# Altium integrated library TI Data Converters Analog to Digital Converter.IntLib: 2198 symbols (part 41 of 164)
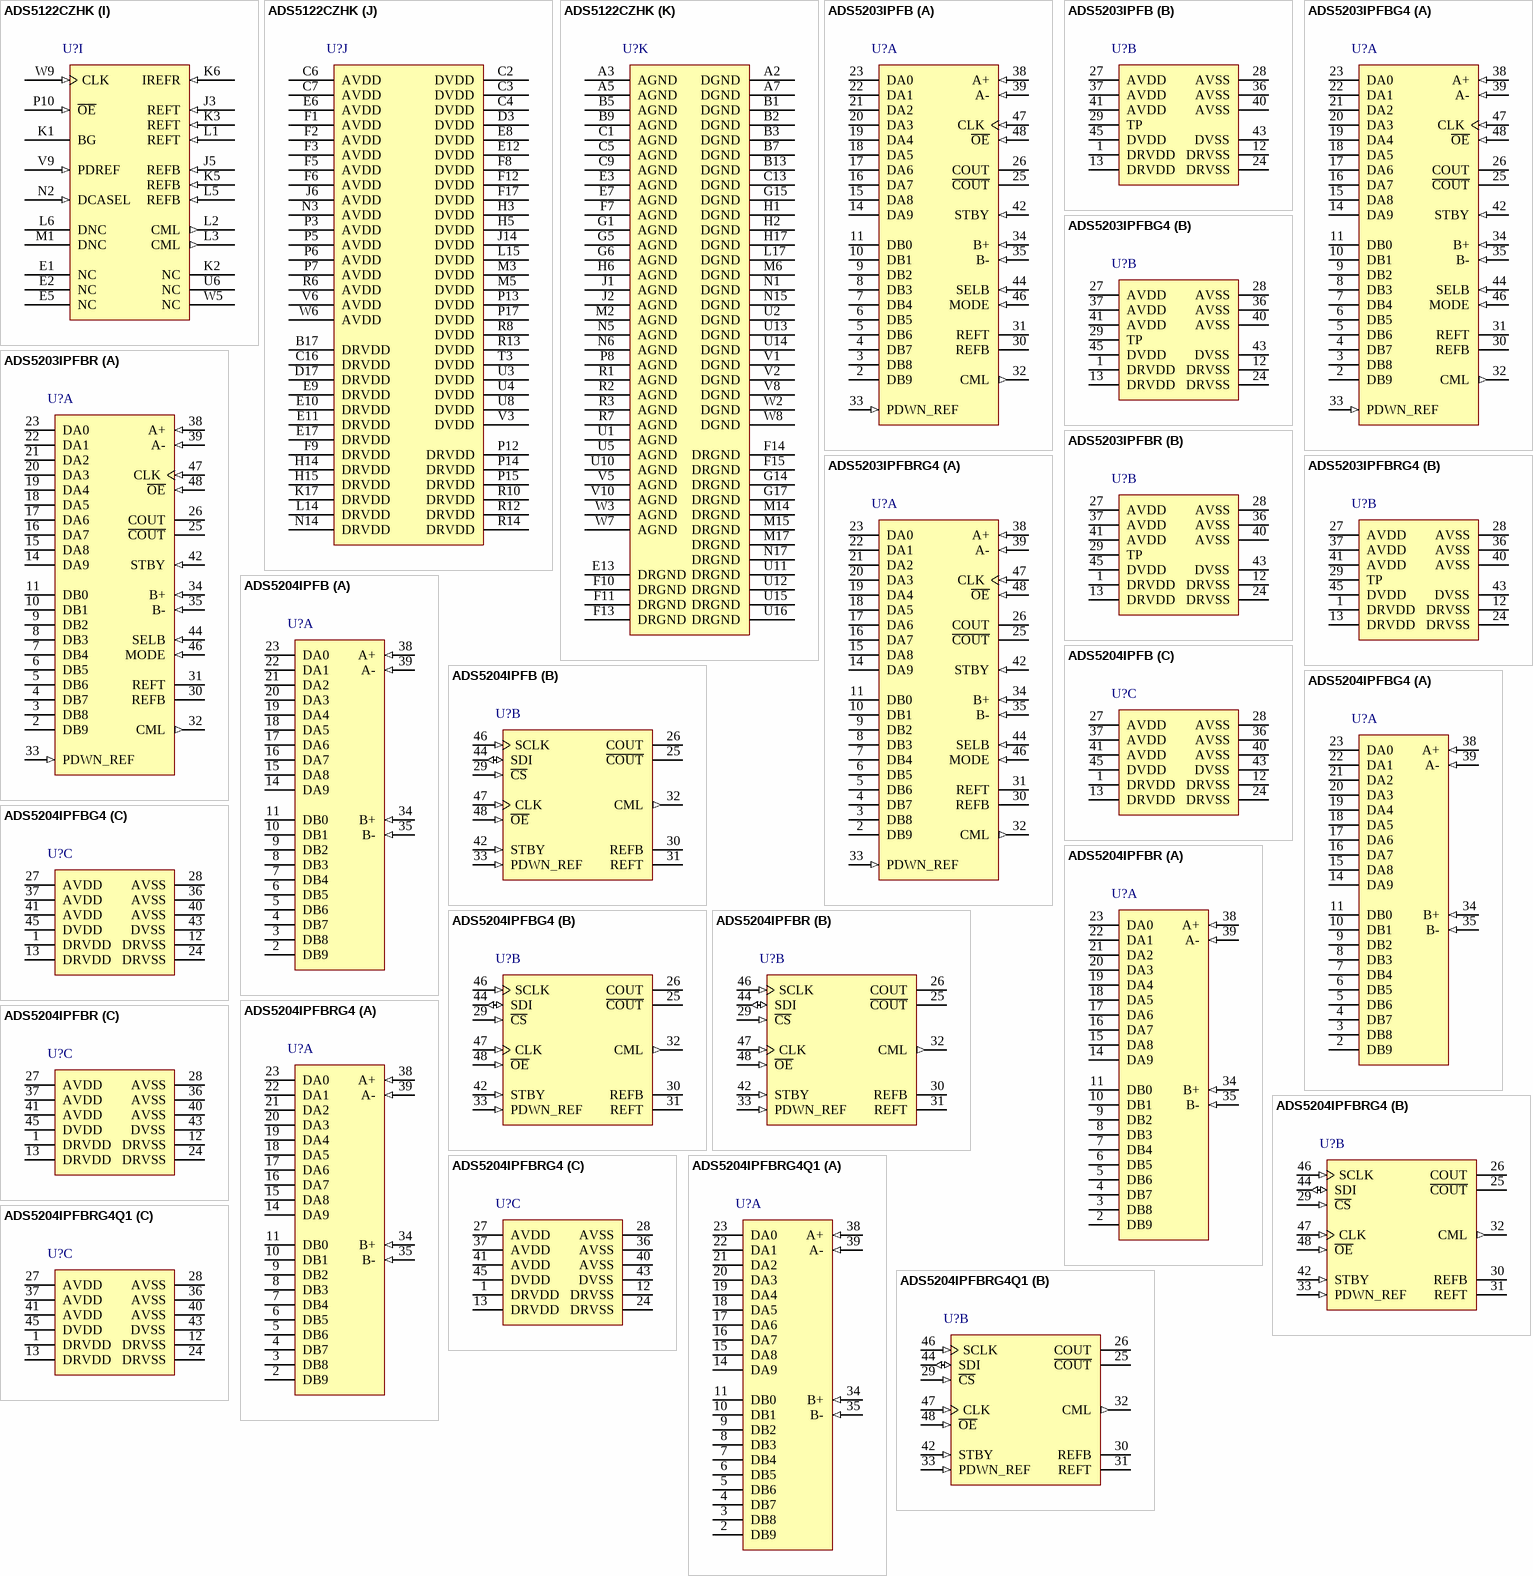
[diagram p166: symbols ADS5122CZHK to ADS5204IPFBRG4Q1]

## ADS5203IPFB
designator U?
10-Bit, 40 MSPS ADC Dual Channel, Low Power, -40 to 85 degC, 48-pin QFP (PFB48), Green (RoHS & no Sb/Br); Manufacturer: Texas Instruments; PartNumber: ADS5203IPFB; # Input Channels: 2; Analog Voltage AV/DD(Max)(V): 3.6; Analog Voltage AV/DD(Min)(V): 3; Architecture: Pipeline; ENOB(Bits): 9.7; INL(Max)(+/-LSB): 1.5; Interface: Parallel CMOS, Serial SPI Interface; Resolution(Bits): 10; Sample Rate (max)(SPS): 40M; SFDR(dB): 73; SINAD(dB): 60; SNR(dB): 60.5; SubFamily: High Speed ADC (>10MSPS); DatasheetVersion: SBAS258A; PackageVersion: 4073176/B, 10/1996; PackageReference: PFB48; PackageDescription: 48-Pin Plastic Flat Pack, Body 7 x 7 mm, Pitch 0.5 mm; Supplier 1: Digi-Key; Supplier Part Number 1: ADS1204IRHBTG4-ND; Digital Supply(Max)(V): 3.6; Digital Supply(Min)(V): 3; Eco-Plan: Green (RoHS & no Sb/Br); Mounting Technology: Surface Mount; Code_JEDEC: MS-026; ComponentLink1Description: Manufacturer URL; ComponentLink1URL: http://www.ti.com/; ComponentLink2Description: Datasheet; ComponentLink2URL: http://www.ti.com/general/docs/lit/getliterature.tsp?genericPartNumber=ADS5203&fileType=pdf; ComponentLink3Description: Package Specification; ComponentLink3URL: http://www.ti.com/lit/ml/mtqf019a/mtqf019a.pdf
footprint TI-PFB48_N (QFP, 48-Leads, Body 7x7mm, Pitch 0.5mm, IPC Medium Density)
footprint TI-PFB48_L (QFP, 48-Leads, Body 7x7mm, Pitch 0.5mm, IPC High Density)
footprint TI-PFB48_M (QFP, 48-Leads, Body 7x7mm, Pitch 0.5mm, IPC Low Density)
part A pins: 2 DB9 (hiz) "Data Outputs for Bus B. D9 is MSB. This is the second bus. Data is output from the B-channel when dual bus output mode is selected. The data outputs are in tri-state during power-down and single-bus modes (refer to Timing (See Datasheet)", 3 DB8 (hiz) "Data Outputs for Bus B. D9 is MSB. This is the second bus. Data is output from the B-channel when dual bus output mode is selected. The data outputs are in tri-state during power-down and single-bus modes (refer to Timing (See Datasheet)", 4 DB7 (hiz) "Data Outputs for Bus B. D9 is MSB. This is the second bus. Data is output from the B-channel when dual bus output mode is selected. The data outputs are in tri-state during power-down and single-bus modes (refer to Timing (See Datasheet)", 5 DB6 (hiz) "Data Outputs for Bus B. D9 is MSB. This is the second bus. Data is output from the B-channel when dual bus output mode is selected. The data outputs are in tri-state during power-down and single-bus modes (refer to Timing (See Datasheet)", 6 DB5 (hiz) "Data Outputs for Bus B. D9 is MSB. This is the second bus. Data is output from the B-channel when dual bus output mode is selected. The data outputs are in tri-state during power-down and single-bus modes (refer to Timing (See Datasheet)", 7 DB4 (hiz) "Data Outputs for Bus B. D9 is MSB. This is the second bus. Data is output from the B-channel when dual bus output mode is selected. The data outputs are in tri-state during power-down and single-bus modes (refer to Timing (See Datasheet)", 8 DB3 (hiz) "Data Outputs for Bus B. D9 is MSB. This is the second bus. Data is output from the B-channel when dual bus output mode is selected. The data outputs are in tri-state during power-down and single-bus modes (refer to Timing (See Datasheet)", 9 DB2 (hiz) "Data Outputs for Bus B. D9 is MSB. This is the second bus. Data is output from the B-channel when dual bus output mode is selected. The data outputs are in tri-state during power-down and single-bus modes (refer to Timing (See Datasheet)", 10 DB1 (hiz) "Data Outputs for Bus B. D9 is MSB. This is the second bus. Data is output from the B-channel when dual bus output mode is selected. The data outputs are in tri-state during power-down and single-bus modes (refer to Timing (See Datasheet)", 11 DB0 (hiz) "Data Outputs for Bus B. D9 is MSB. This is the second bus. Data is output from the B-channel when dual bus output mode is selected. The data outputs are in tri-state during power-down and single-bus modes (refer to Timing (See Datasheet)", 14 DA9 (hiz) "Data Outputs for Bus A. D9 is MSB. This is the primary bus. Data from both input channels can be output on this bus or data from the A channel only. Pins SELB and MODE select the output mode. The data outputs are in (See Datasheet)", 15 DA8 (hiz) "Data Outputs for Bus A. D9 is MSB. This is the primary bus. Data from both input channels can be output on this bus or data from the A channel only. Pins SELB and MODE select the output mode. The data outputs are in (See Datasheet)", 16 DA7 (hiz) "Data Outputs for Bus A. D9 is MSB. This is the primary bus. Data from both input channels can be output on this bus or data from the A channel only. Pins SELB and MODE select the output mode. The data outputs are in (See Datasheet)", 17 DA6 (hiz) "Data Outputs for Bus A. D9 is MSB. This is the primary bus. Data from both input channels can be output on this bus or data from the A channel only. Pins SELB and MODE select the output mode. The data outputs are in (See Datasheet)", 18 DA5 (hiz) "Data Outputs for Bus A. D9 is MSB. This is the primary bus. Data from both input channels can be output on this bus or data from the A channel only. Pins SELB and MODE select the output mode. The data outputs are in (See Datasheet)", 19 DA4 (hiz) "Data Outputs for Bus A. D9 is MSB. This is the primary bus. Data from both input channels can be output on this bus or data from the A channel only. Pins SELB and MODE select the output mode. The data outputs are in (See Datasheet)", 20 DA3 (hiz) "Data Outputs for Bus A. D9 is MSB. This is the primary bus. Data from both input channels can be output on this bus or data from the A channel only. Pins SELB and MODE select the output mode. The data outputs are in (See Datasheet)", 21 DA2 (hiz) "Data Outputs for Bus A. D9 is MSB. This is the primary bus. Data from both input channels can be output on this bus or data from the A channel only. Pins SELB and MODE select the output mode. The data outputs are in (See Datasheet)", 22 DA1 (hiz) "Data Outputs for Bus A. D9 is MSB. This is the primary bus. Data from both input channels can be output on this bus or data from the A channel only. Pins SELB and MODE select the output mode. The data outputs are in (See Datasheet)", 23 DA0 (hiz) "Data Outputs for Bus A. D9 is MSB. This is the primary bus. Data from both input channels can be output on this bus or data from the A channel only. Pins SELB and MODE select the output mode. The data outputs are in (See Datasheet)", 25 ~{COUT} (hiz) "Inverted Latch Clock control for the Data Outputs. C\O\U\T\ is in 3-state during power down.", 26 COUT (hiz) "Latch Clock for the Data Outputs. COUT is in 3-state during power down.", 30 REFB "Reference Voltage Bottom. The voltage at this terminal defines the bottom reference voltage for the ADC. Sufficient filtering should be applied to this input: the use of 0.1-uF capacitor between REFB and AVSS is recommended. (See Datasheet)", 31 REFT "Reference Voltage Top. The voltage at this terminal defines the top reference voltage for the ADC. Sufficient filtering should be applied to this input: the use of 0.1-uF capacitor between REFT and AVSS is highly recommended.(See Datasheet)", 32 CML (out) "Common-Mode Level. This voltage is equal to (AVDD - AVSS)/2. An external capacitor of 0.1uF should be connected between this terminal and AVSS when CML is used as a bias voltage. No capacitor is required if CML is not used.", 33 PDWN_REF (in) "Power-Down for Internal Reference Voltages. A HIGH on this terminal disables the internal reference circuit.", 34 B+ (in) "Positive Input for the Analog B Channel", 35 B- (in) "Negative Input for the Analog B Channel", 38 A+ (in) "Positive Input for Analog A Channel", 39 A- (in) "Negative Input for the Analog A Channel", 42 STBY (in) "Standby Input. A high on this terminal powers down the device.", 44 SELB (in) "Selects either single-bus data output or dual-bus data output. A LOW selects dual-bus data output.", 46 MODE (in) "Selects the COUT and C\O\U\T\ output mode.", 47 CLK (in) "Clock Input. The input is sampled on each rising edge of CLK when using a 40-MHz input and alternate rising edges when using an 80-MHz input. The clock pin is referenced to AVDD and AVSS to reduce noise coupling from digital (See Datasheet)", 48 ~{OE} (in) "Output Enable. A low on this terminal will enable the data output bus, COUT and C\O\U\T\."
part B pins: 1 DRVDD (power) "Supply Voltage for Output Drivers", 12 DRVSS (power) "Digital Ground for Output Drivers", 13 DRVDD (power) "Supply Voltage for Output Drivers", 24 DRVSS (power) "Digital Ground for Output Drivers", 27 AVDD (power) "Analog Supply Voltage", 28 AVSS (power) "Analog Ground", 29 TP (power) "This pin must be connected to DVDD. It should not be left floating.", 36 AVSS (power) "Analog Ground", 37 AVDD (power) "Analog Supply Voltage", 40 AVSS (power) "Analog Ground", 41 AVDD (power) "Analog Supply Voltage", 43 DVSS (power) "Digital Ground", 45 DVDD (power) "Digital Supply Voltage"

## ADS5203IPFBG4
designator U?
10-Bit, 40 MSPS ADC Dual Channel, Low Power, -40 to 85 degC, 48-pin QFP (PFB48), Green (RoHS & no Sb/Br); Manufacturer: Texas Instruments; PartNumber: ADS5203IPFBG4; # Input Channels: 2; Analog Voltage AV/DD(Max)(V): 3.6; Analog Voltage AV/DD(Min)(V): 3; Architecture: Pipeline; ENOB(Bits): 9.7; INL(Max)(+/-LSB): 1.5; Interface: Parallel CMOS, Serial SPI Interface; Resolution(Bits): 10; Sample Rate (max)(SPS): 40M; SFDR(dB): 73; SINAD(dB): 60; SNR(dB): 60.5; SubFamily: High Speed ADC (>10MSPS); DatasheetVersion: SBAS258A; PackageVersion: 4073176/B, 10/1996; PackageReference: PFB48; PackageDescription: 48-Pin Plastic Flat Pack, Body 7 x 7 mm, Pitch 0.5 mm; Supplier 1: Digi-Key; Supplier Part Number 1: ADS8361IRHBR-ND; Digital Supply(Max)(V): 3.6; Digital Supply(Min)(V): 3; Eco-Plan: Green (RoHS & no Sb/Br); Mounting Technology: Surface Mount; Code_JEDEC: MS-026; ComponentLink1Description: Manufacturer URL; ComponentLink1URL: http://www.ti.com/; ComponentLink2Description: Datasheet; ComponentLink2URL: http://www.ti.com/general/docs/lit/getliterature.tsp?genericPartNumber=ADS5203&fileType=pdf; ComponentLink3Description: Package Specification; ComponentLink3URL: http://www.ti.com/lit/ml/mtqf019a/mtqf019a.pdf
footprint TI-PFB48_N (QFP, 48-Leads, Body 7x7mm, Pitch 0.5mm, IPC Medium Density)
footprint TI-PFB48_L (QFP, 48-Leads, Body 7x7mm, Pitch 0.5mm, IPC High Density)
footprint TI-PFB48_M (QFP, 48-Leads, Body 7x7mm, Pitch 0.5mm, IPC Low Density)
part A pins: 2 DB9 (hiz) "Data Outputs for Bus B. D9 is MSB. This is the second bus. Data is output from the B-channel when dual bus output mode is selected. The data outputs are in tri-state during power-down and single-bus modes (refer to Timing (See Datasheet)", 3 DB8 (hiz) "Data Outputs for Bus B. D9 is MSB. This is the second bus. Data is output from the B-channel when dual bus output mode is selected. The data outputs are in tri-state during power-down and single-bus modes (refer to Timing (See Datasheet)", 4 DB7 (hiz) "Data Outputs for Bus B. D9 is MSB. This is the second bus. Data is output from the B-channel when dual bus output mode is selected. The data outputs are in tri-state during power-down and single-bus modes (refer to Timing (See Datasheet)", 5 DB6 (hiz) "Data Outputs for Bus B. D9 is MSB. This is the second bus. Data is output from the B-channel when dual bus output mode is selected. The data outputs are in tri-state during power-down and single-bus modes (refer to Timing (See Datasheet)", 6 DB5 (hiz) "Data Outputs for Bus B. D9 is MSB. This is the second bus. Data is output from the B-channel when dual bus output mode is selected. The data outputs are in tri-state during power-down and single-bus modes (refer to Timing (See Datasheet)", 7 DB4 (hiz) "Data Outputs for Bus B. D9 is MSB. This is the second bus. Data is output from the B-channel when dual bus output mode is selected. The data outputs are in tri-state during power-down and single-bus modes (refer to Timing (See Datasheet)", 8 DB3 (hiz) "Data Outputs for Bus B. D9 is MSB. This is the second bus. Data is output from the B-channel when dual bus output mode is selected. The data outputs are in tri-state during power-down and single-bus modes (refer to Timing (See Datasheet)", 9 DB2 (hiz) "Data Outputs for Bus B. D9 is MSB. This is the second bus. Data is output from the B-channel when dual bus output mode is selected. The data outputs are in tri-state during power-down and single-bus modes (refer to Timing (See Datasheet)", 10 DB1 (hiz) "Data Outputs for Bus B. D9 is MSB. This is the second bus. Data is output from the B-channel when dual bus output mode is selected. The data outputs are in tri-state during power-down and single-bus modes (refer to Timing (See Datasheet)", 11 DB0 (hiz) "Data Outputs for Bus B. D9 is MSB. This is the second bus. Data is output from the B-channel when dual bus output mode is selected. The data outputs are in tri-state during power-down and single-bus modes (refer to Timing (See Datasheet)", 14 DA9 (hiz) "Data Outputs for Bus A. D9 is MSB. This is the primary bus. Data from both input channels can be output on this bus or data from the A channel only. Pins SELB and MODE select the output mode. The data outputs are in (See Datasheet)", 15 DA8 (hiz) "Data Outputs for Bus A. D9 is MSB. This is the primary bus. Data from both input channels can be output on this bus or data from the A channel only. Pins SELB and MODE select the output mode. The data outputs are in (See Datasheet)", 16 DA7 (hiz) "Data Outputs for Bus A. D9 is MSB. This is the primary bus. Data from both input channels can be output on this bus or data from the A channel only. Pins SELB and MODE select the output mode. The data outputs are in (See Datasheet)", 17 DA6 (hiz) "Data Outputs for Bus A. D9 is MSB. This is the primary bus. Data from both input channels can be output on this bus or data from the A channel only. Pins SELB and MODE select the output mode. The data outputs are in (See Datasheet)", 18 DA5 (hiz) "Data Outputs for Bus A. D9 is MSB. This is the primary bus. Data from both input channels can be output on this bus or data from the A channel only. Pins SELB and MODE select the output mode. The data outputs are in (See Datasheet)", 19 DA4 (hiz) "Data Outputs for Bus A. D9 is MSB. This is the primary bus. Data from both input channels can be output on this bus or data from the A channel only. Pins SELB and MODE select the output mode. The data outputs are in (See Datasheet)", 20 DA3 (hiz) "Data Outputs for Bus A. D9 is MSB. This is the primary bus. Data from both input channels can be output on this bus or data from the A channel only. Pins SELB and MODE select the output mode. The data outputs are in (See Datasheet)", 21 DA2 (hiz) "Data Outputs for Bus A. D9 is MSB. This is the primary bus. Data from both input channels can be output on this bus or data from the A channel only. Pins SELB and MODE select the output mode. The data outputs are in (See Datasheet)", 22 DA1 (hiz) "Data Outputs for Bus A. D9 is MSB. This is the primary bus. Data from both input channels can be output on this bus or data from the A channel only. Pins SELB and MODE select the output mode. The data outputs are in (See Datasheet)", 23 DA0 (hiz) "Data Outputs for Bus A. D9 is MSB. This is the primary bus. Data from both input channels can be output on this bus or data from the A channel only. Pins SELB and MODE select the output mode. The data outputs are in (See Datasheet)", 25 ~{COUT} (hiz) "Inverted Latch Clock control for the Data Outputs. C\O\U\T\ is in 3-state during power down.", 26 COUT (hiz) "Latch Clock for the Data Outputs. COUT is in 3-state during power down.", 30 REFB "Reference Voltage Bottom. The voltage at this terminal defines the bottom reference voltage for the ADC. Sufficient filtering should be applied to this input: the use of 0.1-uF capacitor between REFB and AVSS is recommended. (See Datasheet)", 31 REFT "Reference Voltage Top. The voltage at this terminal defines the top reference voltage for the ADC. Sufficient filtering should be applied to this input: the use of 0.1-uF capacitor between REFT and AVSS is highly recommended.(See Datasheet)", 32 CML (out) "Common-Mode Level. This voltage is equal to (AVDD - AVSS)/2. An external capacitor of 0.1uF should be connected between this terminal and AVSS when CML is used as a bias voltage. No capacitor is required if CML is not used.", 33 PDWN_REF (in) "Power-Down for Internal Reference Voltages. A HIGH on this terminal disables the internal reference circuit.", 34 B+ (in) "Positive Input for the Analog B Channel", 35 B- (in) "Negative Input for the Analog B Channel", 38 A+ (in) "Positive Input for Analog A Channel", 39 A- (in) "Negative Input for the Analog A Channel", 42 STBY (in) "Standby Input. A high on this terminal powers down the device.", 44 SELB (in) "Selects either single-bus data output or dual-bus data output. A LOW selects dual-bus data output.", 46 MODE (in) "Selects the COUT and C\O\U\T\ output mode.", 47 CLK (in) "Clock Input. The input is sampled on each rising edge of CLK when using a 40-MHz input and alternate rising edges when using an 80-MHz input. The clock pin is referenced to AVDD and AVSS to reduce noise coupling from digital (See Datasheet)", 48 ~{OE} (in) "Output Enable. A low on this terminal will enable the data output bus, COUT and C\O\U\T\."
part B pins: 1 DRVDD (power) "Supply Voltage for Output Drivers", 12 DRVSS (power) "Digital Ground for Output Drivers", 13 DRVDD (power) "Supply Voltage for Output Drivers", 24 DRVSS (power) "Digital Ground for Output Drivers", 27 AVDD (power) "Analog Supply Voltage", 28 AVSS (power) "Analog Ground", 29 TP (power) "This pin must be connected to DVDD. It should not be left floating.", 36 AVSS (power) "Analog Ground", 37 AVDD (power) "Analog Supply Voltage", 40 AVSS (power) "Analog Ground", 41 AVDD (power) "Analog Supply Voltage", 43 DVSS (power) "Digital Ground", 45 DVDD (power) "Digital Supply Voltage"

## ADS5203IPFBR
designator U?
10-Bit, 40 MSPS ADC Dual Channel, Low Power, -40 to 85 degC, 48-pin QFP (PFB48), Green (RoHS & no Sb/Br); Manufacturer: Texas Instruments; PartNumber: ADS5203IPFBR; # Input Channels: 2; Analog Voltage AV/DD(Max)(V): 3.6; Analog Voltage AV/DD(Min)(V): 3; Architecture: Pipeline; ENOB(Bits): 9.7; INL(Max)(+/-LSB): 1.5; Interface: Parallel CMOS, Serial SPI Interface; Resolution(Bits): 10; Sample Rate (max)(SPS): 40M; SFDR(dB): 73; SINAD(dB): 60; SNR(dB): 60.5; SubFamily: High Speed ADC (>10MSPS); DatasheetVersion: SBAS258A; PackageVersion: 4073176/B, 10/1996; PackageReference: PFB48; PackageDescription: 48-Pin Plastic Flat Pack, Body 7 x 7 mm, Pitch 0.5 mm; Supplier 1: Digi-Key; Supplier Part Number 1: ADS8361IRHBRG4-ND; Digital Supply(Max)(V): 3.6; Digital Supply(Min)(V): 3; Eco-Plan: Green (RoHS & no Sb/Br); Mounting Technology: Surface Mount; Code_JEDEC: MS-026; ComponentLink1Description: Manufacturer URL; ComponentLink1URL: http://www.ti.com/; ComponentLink2Description: Datasheet; ComponentLink2URL: http://www.ti.com/general/docs/lit/getliterature.tsp?genericPartNumber=ADS5203&fileType=pdf; ComponentLink3Description: Package Specification; ComponentLink3URL: http://www.ti.com/lit/ml/mtqf019a/mtqf019a.pdf
footprint TI-PFB48_N (QFP, 48-Leads, Body 7x7mm, Pitch 0.5mm, IPC Medium Density)
footprint TI-PFB48_L (QFP, 48-Leads, Body 7x7mm, Pitch 0.5mm, IPC High Density)
footprint TI-PFB48_M (QFP, 48-Leads, Body 7x7mm, Pitch 0.5mm, IPC Low Density)
part A pins: 2 DB9 (hiz) "Data Outputs for Bus B. D9 is MSB. This is the second bus. Data is output from the B-channel when dual bus output mode is selected. The data outputs are in tri-state during power-down and single-bus modes (refer to Timing (See Datasheet)", 3 DB8 (hiz) "Data Outputs for Bus B. D9 is MSB. This is the second bus. Data is output from the B-channel when dual bus output mode is selected. The data outputs are in tri-state during power-down and single-bus modes (refer to Timing (See Datasheet)", 4 DB7 (hiz) "Data Outputs for Bus B. D9 is MSB. This is the second bus. Data is output from the B-channel when dual bus output mode is selected. The data outputs are in tri-state during power-down and single-bus modes (refer to Timing (See Datasheet)", 5 DB6 (hiz) "Data Outputs for Bus B. D9 is MSB. This is the second bus. Data is output from the B-channel when dual bus output mode is selected. The data outputs are in tri-state during power-down and single-bus modes (refer to Timing (See Datasheet)", 6 DB5 (hiz) "Data Outputs for Bus B. D9 is MSB. This is the second bus. Data is output from the B-channel when dual bus output mode is selected. The data outputs are in tri-state during power-down and single-bus modes (refer to Timing (See Datasheet)", 7 DB4 (hiz) "Data Outputs for Bus B. D9 is MSB. This is the second bus. Data is output from the B-channel when dual bus output mode is selected. The data outputs are in tri-state during power-down and single-bus modes (refer to Timing (See Datasheet)", 8 DB3 (hiz) "Data Outputs for Bus B. D9 is MSB. This is the second bus. Data is output from the B-channel when dual bus output mode is selected. The data outputs are in tri-state during power-down and single-bus modes (refer to Timing (See Datasheet)", 9 DB2 (hiz) "Data Outputs for Bus B. D9 is MSB. This is the second bus. Data is output from the B-channel when dual bus output mode is selected. The data outputs are in tri-state during power-down and single-bus modes (refer to Timing (See Datasheet)", 10 DB1 (hiz) "Data Outputs for Bus B. D9 is MSB. This is the second bus. Data is output from the B-channel when dual bus output mode is selected. The data outputs are in tri-state during power-down and single-bus modes (refer to Timing (See Datasheet)", 11 DB0 (hiz) "Data Outputs for Bus B. D9 is MSB. This is the second bus. Data is output from the B-channel when dual bus output mode is selected. The data outputs are in tri-state during power-down and single-bus modes (refer to Timing (See Datasheet)", 14 DA9 (hiz) "Data Outputs for Bus A. D9 is MSB. This is the primary bus. Data from both input channels can be output on this bus or data from the A channel only. Pins SELB and MODE select the output mode. The data outputs are in (See Datasheet)", 15 DA8 (hiz) "Data Outputs for Bus A. D9 is MSB. This is the primary bus. Data from both input channels can be output on this bus or data from the A channel only. Pins SELB and MODE select the output mode. The data outputs are in (See Datasheet)", 16 DA7 (hiz) "Data Outputs for Bus A. D9 is MSB. This is the primary bus. Data from both input channels can be output on this bus or data from the A channel only. Pins SELB and MODE select the output mode. The data outputs are in (See Datasheet)", 17 DA6 (hiz) "Data Outputs for Bus A. D9 is MSB. This is the primary bus. Data from both input channels can be output on this bus or data from the A channel only. Pins SELB and MODE select the output mode. The data outputs are in (See Datasheet)", 18 DA5 (hiz) "Data Outputs for Bus A. D9 is MSB. This is the primary bus. Data from both input channels can be output on this bus or data from the A channel only. Pins SELB and MODE select the output mode. The data outputs are in (See Datasheet)", 19 DA4 (hiz) "Data Outputs for Bus A. D9 is MSB. This is the primary bus. Data from both input channels can be output on this bus or data from the A channel only. Pins SELB and MODE select the output mode. The data outputs are in (See Datasheet)", 20 DA3 (hiz) "Data Outputs for Bus A. D9 is MSB. This is the primary bus. Data from both input channels can be output on this bus or data from the A channel only. Pins SELB and MODE select the output mode. The data outputs are in (See Datasheet)", 21 DA2 (hiz) "Data Outputs for Bus A. D9 is MSB. This is the primary bus. Data from both input channels can be output on this bus or data from the A channel only. Pins SELB and MODE select the output mode. The data outputs are in (See Datasheet)", 22 DA1 (hiz) "Data Outputs for Bus A. D9 is MSB. This is the primary bus. Data from both input channels can be output on this bus or data from the A channel only. Pins SELB and MODE select the output mode. The data outputs are in (See Datasheet)", 23 DA0 (hiz) "Data Outputs for Bus A. D9 is MSB. This is the primary bus. Data from both input channels can be output on this bus or data from the A channel only. Pins SELB and MODE select the output mode. The data outputs are in (See Datasheet)", 25 ~{COUT} (hiz) "Inverted Latch Clock control for the Data Outputs. C\O\U\T\ is in 3-state during power down.", 26 COUT (hiz) "Latch Clock for the Data Outputs. COUT is in 3-state during power down.", 30 REFB "Reference Voltage Bottom. The voltage at this terminal defines the bottom reference voltage for the ADC. Sufficient filtering should be applied to this input: the use of 0.1-uF capacitor between REFB and AVSS is recommended. (See Datasheet)", 31 REFT "Reference Voltage Top. The voltage at this terminal defines the top reference voltage for the ADC. Sufficient filtering should be applied to this input: the use of 0.1-uF capacitor between REFT and AVSS is highly recommended.(See Datasheet)", 32 CML (out) "Common-Mode Level. This voltage is equal to (AVDD - AVSS)/2. An external capacitor of 0.1uF should be connected between this terminal and AVSS when CML is used as a bias voltage. No capacitor is required if CML is not used.", 33 PDWN_REF (in) "Power-Down for Internal Reference Voltages. A HIGH on this terminal disables the internal reference circuit.", 34 B+ (in) "Positive Input for the Analog B Channel", 35 B- (in) "Negative Input for the Analog B Channel", 38 A+ (in) "Positive Input for Analog A Channel", 39 A- (in) "Negative Input for the Analog A Channel", 42 STBY (in) "Standby Input. A high on this terminal powers down the device.", 44 SELB (in) "Selects either single-bus data output or dual-bus data output. A LOW selects dual-bus data output.", 46 MODE (in) "Selects the COUT and C\O\U\T\ output mode.", 47 CLK (in) "Clock Input. The input is sampled on each rising edge of CLK when using a 40-MHz input and alternate rising edges when using an 80-MHz input. The clock pin is referenced to AVDD and AVSS to reduce noise coupling from digital (See Datasheet)", 48 ~{OE} (in) "Output Enable. A low on this terminal will enable the data output bus, COUT and C\O\U\T\."
part B pins: 1 DRVDD (power) "Supply Voltage for Output Drivers", 12 DRVSS (power) "Digital Ground for Output Drivers", 13 DRVDD (power) "Supply Voltage for Output Drivers", 24 DRVSS (power) "Digital Ground for Output Drivers", 27 AVDD (power) "Analog Supply Voltage", 28 AVSS (power) "Analog Ground", 29 TP (power) "This pin must be connected to DVDD. It should not be left floating.", 36 AVSS (power) "Analog Ground", 37 AVDD (power) "Analog Supply Voltage", 40 AVSS (power) "Analog Ground", 41 AVDD (power) "Analog Supply Voltage", 43 DVSS (power) "Digital Ground", 45 DVDD (power) "Digital Supply Voltage"

## ADS5203IPFBRG4
designator U?
10-Bit, 40 MSPS ADC Dual Channel, Low Power, -40 to 85 degC, 48-pin QFP (PFB48), Green (RoHS & no Sb/Br); Manufacturer: Texas Instruments; PartNumber: ADS5203IPFBRG4; # Input Channels: 2; Analog Voltage AV/DD(Max)(V): 3.6; Analog Voltage AV/DD(Min)(V): 3; Architecture: Pipeline; ENOB(Bits): 9.7; INL(Max)(+/-LSB): 1.5; Interface: Parallel CMOS, Serial SPI Interface; Resolution(Bits): 10; Sample Rate (max)(SPS): 40M; SFDR(dB): 73; SINAD(dB): 60; SNR(dB): 60.5; SubFamily: High Speed ADC (>10MSPS); DatasheetVersion: SBAS258A; PackageVersion: 4073176/B, 10/1996; PackageReference: PFB48; PackageDescription: 48-Pin Plastic Flat Pack, Body 7 x 7 mm, Pitch 0.5 mm; Supplier 1: Digi-Key; Supplier Part Number 1: 296-17411-2-ND; Digital Supply(Max)(V): 3.6; Digital Supply(Min)(V): 3; Eco-Plan: Green (RoHS & no Sb/Br); Mounting Technology: Surface Mount; Code_JEDEC: MS-026; ComponentLink1Description: Manufacturer URL; ComponentLink1URL: http://www.ti.com/; ComponentLink2Description: Datasheet; ComponentLink2URL: http://www.ti.com/general/docs/lit/getliterature.tsp?genericPartNumber=ADS5203&fileType=pdf; ComponentLink3Description: Package Specification; ComponentLink3URL: http://www.ti.com/lit/ml/mtqf019a/mtqf019a.pdf
footprint TI-PFB48_N (QFP, 48-Leads, Body 7x7mm, Pitch 0.5mm, IPC Medium Density)
footprint TI-PFB48_L (QFP, 48-Leads, Body 7x7mm, Pitch 0.5mm, IPC High Density)
footprint TI-PFB48_M (QFP, 48-Leads, Body 7x7mm, Pitch 0.5mm, IPC Low Density)
part A pins: 2 DB9 (hiz) "Data Outputs for Bus B. D9 is MSB. This is the second bus. Data is output from the B-channel when dual bus output mode is selected. The data outputs are in tri-state during power-down and single-bus modes (refer to Timing (See Datasheet)", 3 DB8 (hiz) "Data Outputs for Bus B. D9 is MSB. This is the second bus. Data is output from the B-channel when dual bus output mode is selected. The data outputs are in tri-state during power-down and single-bus modes (refer to Timing (See Datasheet)", 4 DB7 (hiz) "Data Outputs for Bus B. D9 is MSB. This is the second bus. Data is output from the B-channel when dual bus output mode is selected. The data outputs are in tri-state during power-down and single-bus modes (refer to Timing (See Datasheet)", 5 DB6 (hiz) "Data Outputs for Bus B. D9 is MSB. This is the second bus. Data is output from the B-channel when dual bus output mode is selected. The data outputs are in tri-state during power-down and single-bus modes (refer to Timing (See Datasheet)", 6 DB5 (hiz) "Data Outputs for Bus B. D9 is MSB. This is the second bus. Data is output from the B-channel when dual bus output mode is selected. The data outputs are in tri-state during power-down and single-bus modes (refer to Timing (See Datasheet)", 7 DB4 (hiz) "Data Outputs for Bus B. D9 is MSB. This is the second bus. Data is output from the B-channel when dual bus output mode is selected. The data outputs are in tri-state during power-down and single-bus modes (refer to Timing (See Datasheet)", 8 DB3 (hiz) "Data Outputs for Bus B. D9 is MSB. This is the second bus. Data is output from the B-channel when dual bus output mode is selected. The data outputs are in tri-state during power-down and single-bus modes (refer to Timing (See Datasheet)", 9 DB2 (hiz) "Data Outputs for Bus B. D9 is MSB. This is the second bus. Data is output from the B-channel when dual bus output mode is selected. The data outputs are in tri-state during power-down and single-bus modes (refer to Timing (See Datasheet)", 10 DB1 (hiz) "Data Outputs for Bus B. D9 is MSB. This is the second bus. Data is output from the B-channel when dual bus output mode is selected. The data outputs are in tri-state during power-down and single-bus modes (refer to Timing (See Datasheet)", 11 DB0 (hiz) "Data Outputs for Bus B. D9 is MSB. This is the second bus. Data is output from the B-channel when dual bus output mode is selected. The data outputs are in tri-state during power-down and single-bus modes (refer to Timing (See Datasheet)", 14 DA9 (hiz) "Data Outputs for Bus A. D9 is MSB. This is the primary bus. Data from both input channels can be output on this bus or data from the A channel only. Pins SELB and MODE select the output mode. The data outputs are in (See Datasheet)", 15 DA8 (hiz) "Data Outputs for Bus A. D9 is MSB. This is the primary bus. Data from both input channels can be output on this bus or data from the A channel only. Pins SELB and MODE select the output mode. The data outputs are in (See Datasheet)", 16 DA7 (hiz) "Data Outputs for Bus A. D9 is MSB. This is the primary bus. Data from both input channels can be output on this bus or data from the A channel only. Pins SELB and MODE select the output mode. The data outputs are in (See Datasheet)", 17 DA6 (hiz) "Data Outputs for Bus A. D9 is MSB. This is the primary bus. Data from both input channels can be output on this bus or data from the A channel only. Pins SELB and MODE select the output mode. The data outputs are in (See Datasheet)", 18 DA5 (hiz) "Data Outputs for Bus A. D9 is MSB. This is the primary bus. Data from both input channels can be output on this bus or data from the A channel only. Pins SELB and MODE select the output mode. The data outputs are in (See Datasheet)", 19 DA4 (hiz) "Data Outputs for Bus A. D9 is MSB. This is the primary bus. Data from both input channels can be output on this bus or data from the A channel only. Pins SELB and MODE select the output mode. The data outputs are in (See Datasheet)", 20 DA3 (hiz) "Data Outputs for Bus A. D9 is MSB. This is the primary bus. Data from both input channels can be output on this bus or data from the A channel only. Pins SELB and MODE select the output mode. The data outputs are in (See Datasheet)", 21 DA2 (hiz) "Data Outputs for Bus A. D9 is MSB. This is the primary bus. Data from both input channels can be output on this bus or data from the A channel only. Pins SELB and MODE select the output mode. The data outputs are in (See Datasheet)", 22 DA1 (hiz) "Data Outputs for Bus A. D9 is MSB. This is the primary bus. Data from both input channels can be output on this bus or data from the A channel only. Pins SELB and MODE select the output mode. The data outputs are in (See Datasheet)", 23 DA0 (hiz) "Data Outputs for Bus A. D9 is MSB. This is the primary bus. Data from both input channels can be output on this bus or data from the A channel only. Pins SELB and MODE select the output mode. The data outputs are in (See Datasheet)", 25 ~{COUT} (hiz) "Inverted Latch Clock control for the Data Outputs. C\O\U\T\ is in 3-state during power down.", 26 COUT (hiz) "Latch Clock for the Data Outputs. COUT is in 3-state during power down.", 30 REFB "Reference Voltage Bottom. The voltage at this terminal defines the bottom reference voltage for the ADC. Sufficient filtering should be applied to this input: the use of 0.1-uF capacitor between REFB and AVSS is recommended. (See Datasheet)", 31 REFT "Reference Voltage Top. The voltage at this terminal defines the top reference voltage for the ADC. Sufficient filtering should be applied to this input: the use of 0.1-uF capacitor between REFT and AVSS is highly recommended.(See Datasheet)", 32 CML (out) "Common-Mode Level. This voltage is equal to (AVDD - AVSS)/2. An external capacitor of 0.1uF should be connected between this terminal and AVSS when CML is used as a bias voltage. No capacitor is required if CML is not used.", 33 PDWN_REF (in) "Power-Down for Internal Reference Voltages. A HIGH on this terminal disables the internal reference circuit.", 34 B+ (in) "Positive Input for the Analog B Channel", 35 B- (in) "Negative Input for the Analog B Channel", 38 A+ (in) "Positive Input for Analog A Channel", 39 A- (in) "Negative Input for the Analog A Channel", 42 STBY (in) "Standby Input. A high on this terminal powers down the device.", 44 SELB (in) "Selects either single-bus data output or dual-bus data output. A LOW selects dual-bus data output.", 46 MODE (in) "Selects the COUT and C\O\U\T\ output mode.", 47 CLK (in) "Clock Input. The input is sampled on each rising edge of CLK when using a 40-MHz input and alternate rising edges when using an 80-MHz input. The clock pin is referenced to AVDD and AVSS to reduce noise coupling from digital (See Datasheet)", 48 ~{OE} (in) "Output Enable. A low on this terminal will enable the data output bus, COUT and C\O\U\T\."
part B pins: 1 DRVDD (power) "Supply Voltage for Output Drivers", 12 DRVSS (power) "Digital Ground for Output Drivers", 13 DRVDD (power) "Supply Voltage for Output Drivers", 24 DRVSS (power) "Digital Ground for Output Drivers", 27 AVDD (power) "Analog Supply Voltage", 28 AVSS (power) "Analog Ground", 29 TP (power) "This pin must be connected to DVDD. It should not be left floating.", 36 AVSS (power) "Analog Ground", 37 AVDD (power) "Analog Supply Voltage", 40 AVSS (power) "Analog Ground", 41 AVDD (power) "Analog Supply Voltage", 43 DVSS (power) "Digital Ground", 45 DVDD (power) "Digital Supply Voltage"

## ADS5204IPFB
designator U?
10-Bit, 40 MSPS ADC with PGA, Dual Channel, Low Power, -40 to 85 degC, 48-pin QFP (PFB48), Green (RoHS & no Sb/Br); Manufacturer: Texas Instruments; PartNumber: ADS5204IPFB; # Input Channels: 2; Analog Voltage AV/DD(Max)(V): 3.6; Analog Voltage AV/DD(Min)(V): 3; Architecture: Pipeline; ENOB(Bits): 9.7; INL(Max)(+/-LSB): 1.5; Interface: Parallel CMOS, Serial SPI Interface; Resolution(Bits): 10; Sample Rate (max)(SPS): 40M; SFDR(dB): 73; SINAD(dB): 60; SNR(dB): 60.5; SubFamily: High Speed ADC (>10MSPS); DatasheetVersion: SBAS268A; PackageVersion: 4073176/B, 10/1996; PackageReference: PFB48; PackageDescription: 48-Pin Plastic Flat Pack, Body 7 x 7 mm, Pitch 0.5 mm; Supplier 1: Digi-Key; Supplier Part Number 1: ADS8361IRHBTG4-ND; Digital Supply(Max)(V): 3.6; Digital Supply(Min)(V): 3; Eco-Plan: Green (RoHS & no Sb/Br); Mounting Technology: Surface Mount; Code_JEDEC: MS-026; ComponentLink1Description: Manufacturer URL; ComponentLink1URL: http://www.ti.com/; ComponentLink2Description: Datasheet; ComponentLink2URL: http://www.ti.com/general/docs/lit/getliterature.tsp?genericPartNumber=ADS5204&fileType=pdf; ComponentLink3Description: Package Specification; ComponentLink3URL: http://www.ti.com/lit/ml/mtqf019a/mtqf019a.pdf
footprint TI-PFB48_N (QFP, 48-Leads, Body 7x7mm, Pitch 0.5mm, IPC Medium Density)
footprint TI-PFB48_L (QFP, 48-Leads, Body 7x7mm, Pitch 0.5mm, IPC High Density)
footprint TI-PFB48_M (QFP, 48-Leads, Body 7x7mm, Pitch 0.5mm, IPC Low Density)
part A pins: 2 DB9 (hiz) "Data Outputs for Bus B. D9 is MSB. This is the second bus. Data is output from the B channel when dual bus output mode is selected. The data outputs are in 3-state during power-down and single-bus modes (see the Timing (See Datasheet)", 3 DB8 (hiz) "Data Outputs for Bus B. D9 is MSB. This is the second bus. Data is output from the B channel when dual bus output mode is selected. The data outputs are in 3-state during power-down and single-bus modes (see the Timing (See Datasheet)", 4 DB7 (hiz) "Data Outputs for Bus B. D9 is MSB. This is the second bus. Data is output from the B channel when dual bus output mode is selected. The data outputs are in 3-state during power-down and single-bus modes (see the Timing (See Datasheet)", 5 DB6 (hiz) "Data Outputs for Bus B. D9 is MSB. This is the second bus. Data is output from the B channel when dual bus output mode is selected. The data outputs are in 3-state during power-down and single-bus modes (see the Timing (See Datasheet)", 6 DB5 (hiz) "Data Outputs for Bus B. D9 is MSB. This is the second bus. Data is output from the B channel when dual bus output mode is selected. The data outputs are in 3-state during power-down and single-bus modes (see the Timing (See Datasheet)", 7 DB4 (hiz) "Data Outputs for Bus B. D9 is MSB. This is the second bus. Data is output from the B channel when dual bus output mode is selected. The data outputs are in 3-state during power-down and single-bus modes (see the Timing (See Datasheet)", 8 DB3 (hiz) "Data Outputs for Bus B. D9 is MSB. This is the second bus. Data is output from the B channel when dual bus output mode is selected. The data outputs are in 3-state during power-down and single-bus modes (see the Timing (See Datasheet)", 9 DB2 (hiz) "Data Outputs for Bus B. D9 is MSB. This is the second bus. Data is output from the B channel when dual bus output mode is selected. The data outputs are in 3-state during power-down and single-bus modes (see the Timing (See Datasheet)", 10 DB1 (hiz) "Data Outputs for Bus B. D9 is MSB. This is the second bus. Data is output from the B channel when dual bus output mode is selected. The data outputs are in 3-state during power-down and single-bus modes (see the Timing (See Datasheet)", 11 DB0 (hiz) "Data Outputs for Bus B. D9 is MSB. This is the second bus. Data is output from the B channel when dual bus output mode is selected. The data outputs are in 3-state during power-down and single-bus modes (see the Timing (See Datasheet)", 14 DA9 (hiz) "Data Outputs for Bus A. D9 is MSB. This is the primary bus. Data from both input channels can be output on this bus or data from channel A only. The data outputs are in 3-state during power-down (see the Register (See Datasheet)", 15 DA8 (hiz) "Data Outputs for Bus A. D9 is MSB. This is the primary bus. Data from both input channels can be output on this bus or data from channel A only. The data outputs are in 3-state during power-down (see the Register (See Datasheet)", 16 DA7 (hiz) "Data Outputs for Bus A. D9 is MSB. This is the primary bus. Data from both input channels can be output on this bus or data from channel A only. The data outputs are in 3-state during power-down (see the Register (See Datasheet)", 17 DA6 (hiz) "Data Outputs for Bus A. D9 is MSB. This is the primary bus. Data from both input channels can be output on this bus or data from channel A only. The data outputs are in 3-state during power-down (see the Register (See Datasheet)", 18 DA5 (hiz) "Data Outputs for Bus A. D9 is MSB. This is the primary bus. Data from both input channels can be output on this bus or data from channel A only. The data outputs are in 3-state during power-down (see the Register (See Datasheet)", 19 DA4 (hiz) "Data Outputs for Bus A. D9 is MSB. This is the primary bus. Data from both input channels can be output on this bus or data from channel A only. The data outputs are in 3-state during power-down (see the Register (See Datasheet)", 20 DA3 (hiz) "Data Outputs for Bus A. D9 is MSB. This is the primary bus. Data from both input channels can be output on this bus or data from channel A only. The data outputs are in 3-state during power-down (see the Register (See Datasheet)", 21 DA2 (hiz) "Data Outputs for Bus A. D9 is MSB. This is the primary bus. Data from both input channels can be output on this bus or data from channel A only. The data outputs are in 3-state during power-down (see the Register (See Datasheet)", 22 DA1 (hiz) "Data Outputs for Bus A. D9 is MSB. This is the primary bus. Data from both input channels can be output on this bus or data from channel A only. The data outputs are in 3-state during power-down (see the Register (See Datasheet)", 23 DA0 (hiz) "Data Outputs for Bus A. D9 is MSB. This is the primary bus. Data from both input channels can be output on this bus or data from channel A only. The data outputs are in 3-state during power-down (see the Register (See Datasheet)", 34 B+ (in) "Positive Input for the Analog B Channel", 35 B- (in) "Negative Input for the Analog B Channel", 38 A+ (in) "Positive Input for Analog A Channel", 39 A- (in) "Negative Input for the Analog A Channel"
part B pins: 25 ~{COUT} (hiz) "Inverted Latch Clock control for the Data Outputs. C\O\U\T\ is in 3-state during power down.", 26 COUT (hiz) "Latch Clock for the Data Outputs. COUT is in 3-state during power down.", 29 ~{CS} (in) "Serial Data Registers Chip Select", 30 REFB "Reference Voltage Bottom. The voltage at this terminal defines the bottom reference voltage for the ADC. Sufficient filtering should be applied to this input: the use of 0.1-uF capacitor between REFB and AVSS is recommended. (See Datasheet)", 31 REFT "Reference Voltage Top. The voltage at this terminal defines the top reference voltage for the ADC. Sufficient filtering should be applied to this input: the use of 0.1-uF capacitor between REFT and AVSS is highly recommended.(See Datasheet)", 32 CML (out) "Common-Mode Level. This voltage is equal to (AVDD - AVSS)/2. An external capacitor of 0.1uF should be connected between this terminal and AVSS when CML is used as a bias voltage. No capacitor is required if CML is not used.", 33 PDWN_REF (in) "Power-Down for Internal Reference Voltages. A HIGH on this terminal disables the internal reference circuit.", 42 STBY (in) "Standby Input. A high on this terminal powers down the device.", 44 SDI (io) "Serial Data I/O", 46 SCLK (in) "Serial Data Clock. Maximum clock rate is 20 MHz.", 47 CLK (in) "Clock Input. The input is sampled on each rising edge of CLK when using a 40-MHz input and alternate rising edges when using an 80-MHz input. The clock pin is referenced to AVDD and AVSS to reduce noise coupling from digital (See Datasheet)", 48 ~{OE} (in) "Output Enable. A low on this terminal will enable the data output bus, COUT and C\O\U\T\."
part C pins: 1 DRVDD (power) "Supply Voltage for Output Drivers", 12 DRVSS (power) "Digital Ground for Output Drivers", 13 DRVDD (power) "Supply Voltage for Output Drivers", 24 DRVSS (power) "Digital Ground for Output Drivers", 27 AVDD (power) "Analog Supply Voltage", 28 AVSS (power) "Analog Ground", 36 AVSS (power) "Analog Ground", 37 AVDD (power) "Analog Supply Voltage", 40 AVSS (power) "Analog Ground", 41 AVDD (power) "Analog Supply Voltage", 43 DVSS (power) "Digital Ground", 45 DVDD (power) "Digital Supply Voltage"